# Altium footprint library 常用天线库.PcbLib: 31 footprints (part 1 of 2)
Each footprint in its own frame and in the unit in brackets; x right, y up, seen from the top. Pads: shape width x height; smd on the part's side, far side on the other; paste and mask are expansions set on the pad; w line width, h text height; cw(c..) or ccw(c..) is an arc to the next point about the centre after c.
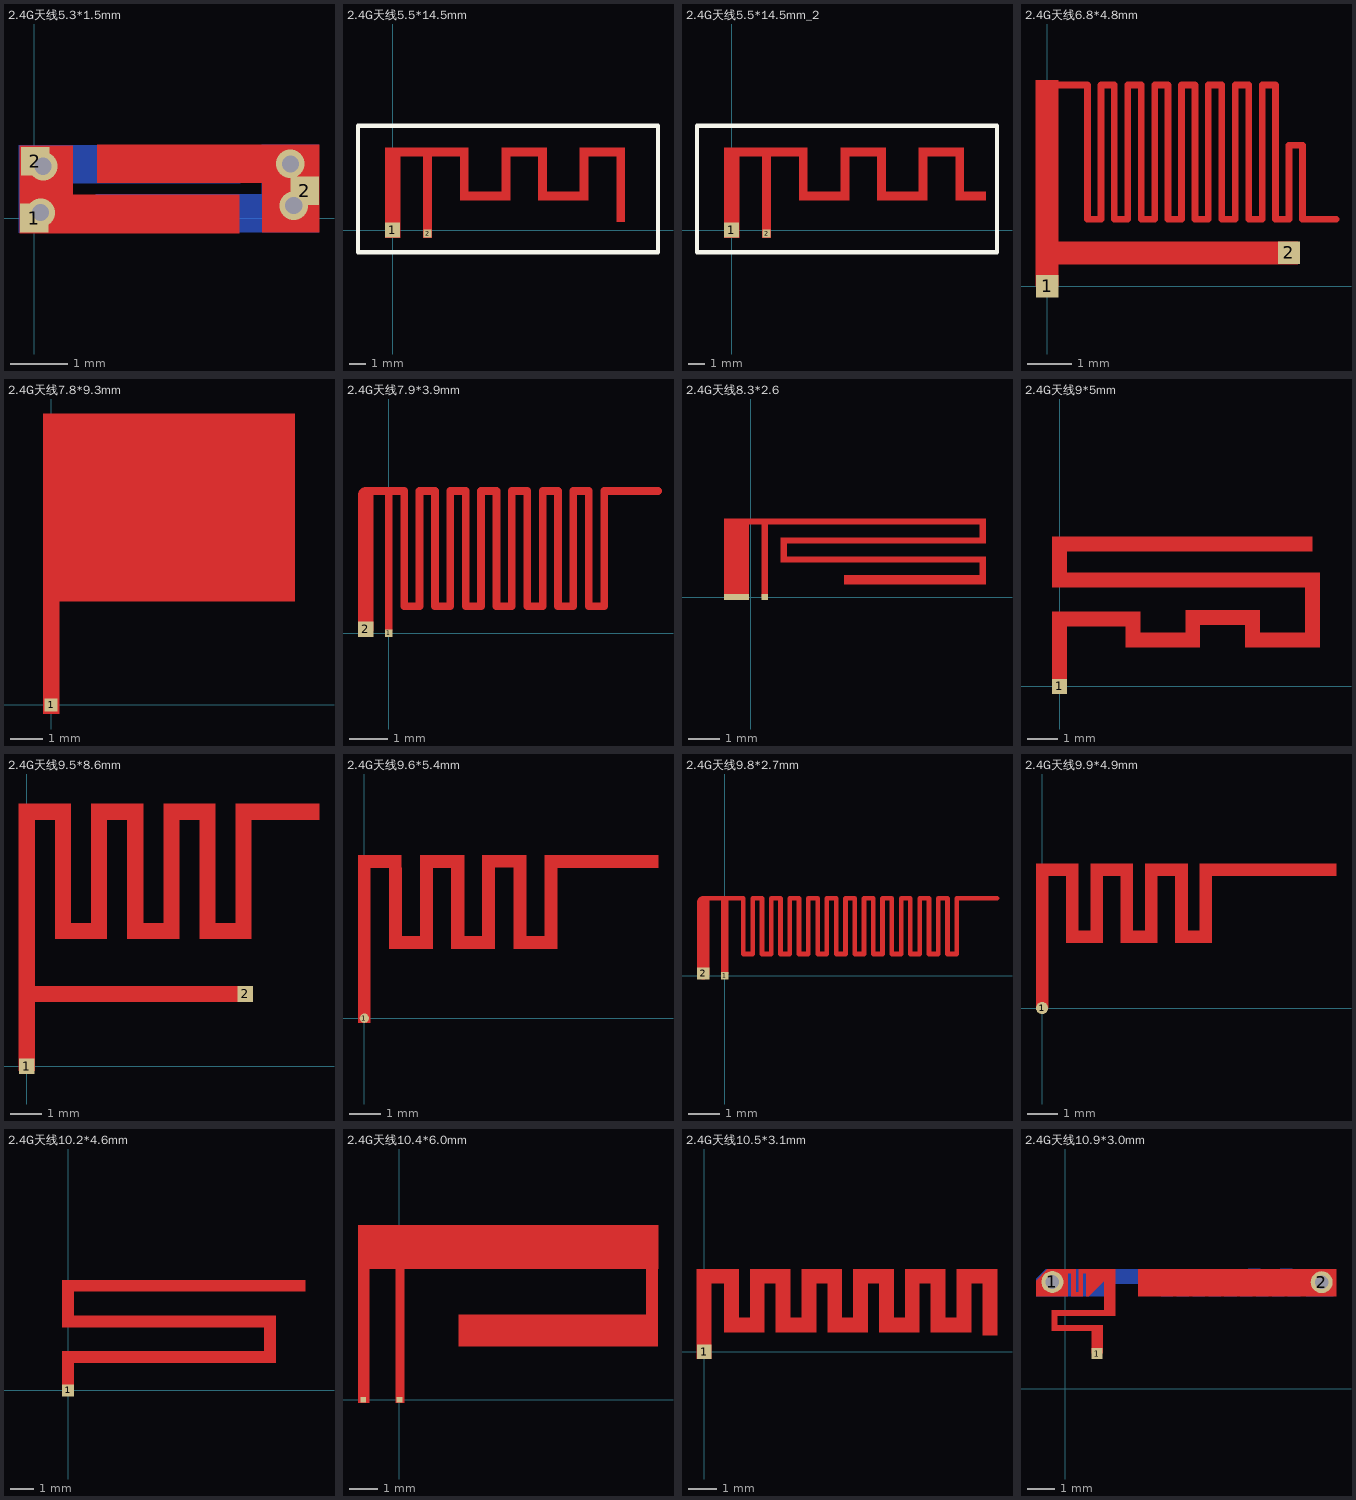
[diagram p0: the footprints below, top view; thin cyan lines are the x and y axes]

## 2.4G天线5.3*1.5mm [mm]
pads (3):
  rect 0.5x0.5 smd: 1(0,0) 2(0.02,0.99) 2(4.73,0.48)
via 0.111,0.095 diameter 0.5 hole 0.3
via 0.154,0.905 diameter 0.5 hole 0.3
via 4.481,0.946 diameter 0.5 hole 0.3
via 4.539,0.217 diameter 0.5 hole 0.3
Top Layer:
  region: -0.258,1.263 0.673,1.263 0.673,0.404 3.587,0.404 3.587,-0.268 -0.258,-0.268
  region: 1.1,1.281 1.1,0.619 3.986,0.619 3.986,-0.252 4.981,-0.252 4.981,1.281
  lines w0.5: 4.539,0.217 4.71,0.388
Bottom Layer:
  region: -0.267,1.275 -0.267,-0.258 0.67,-0.258 0.67,0.605 3.601,0.605 3.601,1.275
  region: 3.984,1.283 4.98,1.283 4.98,-0.25 1.074,-0.25 1.074,0.413 3.984,0.413

## 2.4G天线5.5*14.5mm [mm]
pads (2):
  rect 0.9x0.9 smd: 1(0,0)
  rect 0.5x0.5 smd: 2(2.1,-0.2)
Top Layer:
  region: 13.95,4.45 13.45,4.45 13.45,0.51 13.95,0.51
  region: 11.25,4.45 13.95,4.45 13.95,4.95 11.25,4.95
  region: 11.75,4.45 11.25,4.45 11.25,1.81 11.75,1.81
  region: 9.25,1.81 11.25,1.81 11.25,2.31 9.25,2.31
  region: 9.25,4.45 8.75,4.45 8.75,1.81 9.25,1.81
  region: 6.55,4.45 9.25,4.45 9.25,4.95 6.55,4.95
  region: 7.05,4.45 6.55,4.45 6.55,1.81 7.05,1.81
  region: 4.55,1.81 6.55,1.81 6.55,2.31 4.55,2.31
  region: 4.55,4.45 4.05,4.45 4.05,1.81 4.55,1.81
  region: -0.45,4.45 4.55,4.45 4.55,4.95 -0.45,4.95
  region: 1.85,4.45 2.35,4.45 2.35,-0.45 1.85,-0.45
  region: -0.45,-0.45 0.45,-0.45 0.45,4.45 -0.45,4.45
Top Overlay:
  lines w0.254: -2.07,-1.327 -2.07,6.273 15.93,6.273 15.93,-1.327 -2.07,-1.327

## 2.4G天线5.5*14.5mm_2 [mm]
pads (2):
  rect 0.9x0.9 smd: 1(0,0)
  rect 0.5x0.5 smd: 2(2.1,-0.2)
Top Layer:
  region: 13.72,1.81 15.25,1.81 15.25,2.31 13.72,2.31
  region: -0.45,-0.45 0.45,-0.45 0.45,4.45 -0.45,4.45
  region: 1.85,4.45 2.35,4.45 2.35,-0.45 1.85,-0.45
  region: -0.45,4.45 4.55,4.45 4.55,4.95 -0.45,4.95
  region: 4.55,4.45 4.05,4.45 4.05,1.81 4.55,1.81
  region: 4.55,1.81 6.55,1.81 6.55,2.31 4.55,2.31
  region: 7.05,4.45 6.55,4.45 6.55,1.81 7.05,1.81
  region: 6.55,4.45 9.25,4.45 9.25,4.95 6.55,4.95
  region: 9.25,4.45 8.75,4.45 8.75,1.81 9.25,1.81
  region: 9.25,1.81 11.25,1.81 11.25,2.31 9.25,2.31
  region: 11.75,4.45 11.25,4.45 11.25,1.81 11.75,1.81
  region: 11.25,4.45 13.95,4.45 13.95,4.95 11.25,4.95
  region: 13.95,4.45 13.45,4.45 13.45,1.81 13.95,1.81
Top Overlay:
  lines w0.254: -2.07,-1.327 15.93,-1.327 15.93,6.273 -2.07,6.273 -2.07,-1.327

## 2.4G天线6.8*4.8mm [mm]
pads (2):
  rect 0.5x0.5 smd: 1(0,0) 2(5.4,0.75)
Top Layer:
  region: 0,0.5 0,1 5.6,1 5.6,0.5
  region: -0.25,4.6 0.25,4.6 0.25,0 -0.25,0
  lines w0.15: 0.15,4.5 0.9,4.5 0.9,1.5 1.2,1.5 1.2,4.5 1.5,4.5 1.5,1.5 1.8,1.5 1.8,4.5 2.1,4.5 2.1,1.5 2.4,1.5 2.4,4.5 2.7,4.5 2.7,1.5 3,1.5 3,4.5 3.3,4.5 3.3,1.5 3.6,1.5 3.6,4.5 3.9,4.5 3.9,1.5 4.2,1.5 4.2,4.5 4.5,4.5 4.5,1.5 4.8,1.5 4.8,4.5 5.1,4.5 5.1,1.5 5.4,1.5 5.4,3.15 5.7,3.15 5.7,1.5 6.45,1.5

## 2.4G天线7.8*9.3mm [mm]
pads (1):
  rect 0.4x0.4 smd: 1(0,0)
Top Layer:
  region: -0.246,9.016 -0.246,-0.284 0.254,-0.284 0.254,9.016
  region: 7.554,9.016 7.554,3.216 -0.246,3.216 -0.246,9.016

## 2.4G天线7.9*3.9mm [mm]
pads (2):
  rrect0% 0.2x0.2 smd: 1(0,0)
  rect 0.4x0.4 smd: 2(-0.6,0.1)
Top Layer:
  lines w0.2: -0.6,3.7 0,3.7 ; 0,0.1 0,3.7 ; 7,3.696 5.6,3.696 5.6,0.7 5.2,0.7 5.2,3.7 4.8,3.7 4.8,0.7 4.4,0.7 4.4,3.7 4,3.7 4,0.7 3.6,0.7 3.6,3.7 3.2,3.7 3.2,0.7 2.8,0.7 2.8,3.7 2.4,3.7 2.4,0.7 2,0.7 2,3.7 1.6,3.7 1.6,0.7 1.2,0.7 1.2,3.7 0.8,3.7 0.8,0.7 0.4,0.7 0.4,3.7 0,3.7
  lines w0.4: -0.6,0.1 -0.6,3.6

## 2.4G天线8.3*2.6 [mm] "鼠标天线"
pads (2):
  rect 0.2x0.2 smd: 1(0.45,0)
  rect 0.8x0.2 smd: 2(-0.45,0)
Top Layer:
  rectangle: 2.95,0.39 7.45,0.69
  rectangle: 0.95,1.09 7.45,1.29
  rectangle: 0.95,1.69 7.45,1.89
  region: 7.45,0.39 7.45,1.29 7.25,1.29 7.25,0.39
  region: 7.45,1.69 7.45,2.49 7.25,2.49 7.25,1.69
  region: 1.15,1.09 1.15,1.89 0.95,1.89 0.95,1.09
  region: -0.05,-0.01 -0.05,2.49 -0.85,2.49 -0.85,-0.01
  rectangle: -0.85,2.29 7.45,2.49
  region: 0.55,-0.01 0.55,2.49 0.35,2.49 0.35,-0.01

## 2.4G天线9*5mm [mm] "2.4G"
pads (1):
  rect 0.5x0.5 smd: 1(0,0)
Top Layer:
  rectangle: -0.25,0 0.25,2.25
  region: 2.7,2 2.7,2.5 -0.25,2.5 -0.25,2
  region: 2.7,2.3 2.2,2.3 2.2,1.55 2.7,1.55
  region: 2.2,1.8 2.2,1.3 4.7,1.3 4.7,1.8
  region: 4.7,2.3 4.2,2.3 4.2,1.55 4.7,1.55
  region: 4.2,2.55 4.2,2.05 6.7,2.05 6.7,2.55
  region: 6.7,2.3 6.2,2.3 6.2,1.55 6.7,1.55
  region: 8.7,1.3 8.7,1.8 6.2,1.8 6.2,1.3
  region: 8.7,3.55 8.2,3.55 8.2,1.55 8.7,1.55
  region: -0.25,3.8 -0.25,3.3 8.7,3.3 8.7,3.8
  region: 0.25,4.75 -0.25,4.75 -0.25,3.5 0.25,3.5
  region: -0.25,5 -0.25,4.5 8.45,4.5 8.45,5

## 2.4G天线9.5*8.6mm [mm]
pads (2):
  rect 0.5x0.5 smd: 1(0,0) 2(6.95,2.3)
Top Layer:
  region: 6.65,8.35 9.3,8.35 9.3,7.85 6.65,7.85
  region: 6.65,8.15 7.15,8.15 7.15,4.25 6.65,4.25
  region: 5.5,4.55 7.15,4.55 7.15,4.05 5.5,4.05
  region: 5.5,8.35 6,8.35 6,4.05 5.5,4.05
  region: 4.55,8.35 6,8.35 6,7.85 4.55,7.85
  region: 4.35,8.35 4.85,8.35 4.85,4.3 4.35,4.3
  region: 3.2,4.55 4.85,4.55 4.85,4.05 3.2,4.05
  region: 3.2,8.25 3.7,8.25 3.7,4.4 3.2,4.4
  region: 2.05,8.35 2.55,8.35 2.55,4.35 2.05,4.35
  region: 2.3,8.35 3.7,8.35 3.7,7.85 2.3,7.85
  region: 0.9,7.95 1.4,7.95 1.4,4.35 0.9,4.35
  region: 0.9,4.55 2.55,4.55 2.55,4.05 0.9,4.05
  region: -0.25,8.35 1.4,8.35 1.4,7.85 -0.25,7.85
  region: -0.25,8.1 0.25,8.1 0.25,-0.15 -0.25,-0.15
  region: 0.05,2.55 7.185,2.55 7.185,2.05 0.05,2.05

## 2.4G天线9.6*5.4mm [mm]
pads (1):
  round 0.3 smd: 1(0,0)
Top Layer:
  region: -0.204,5.236 0.194,5.236 0.194,-0.15 -0.204,-0.15
  region: 0.193,5.236 1.193,5.236 1.193,4.837 0.193,4.837
  region: 0.793,4.836 1.193,4.836 1.193,2.237 0.793,2.237
  region: 1.183,2.637 1.792,2.637 1.792,2.237 1.183,2.237
  region: 1.792,5.237 2.192,5.237 2.192,2.237 1.792,2.237
  region: 2.192,5.236 3.214,5.236 3.214,4.836 2.192,4.836
  region: 2.793,4.837 3.215,4.837 3.215,2.237 2.793,2.237
  region: 3.793,5.239 4.193,5.239 4.193,2.237 3.793,2.237
  region: 3.215,2.639 3.81,2.639 3.81,2.239 3.215,2.239
  region: 4.795,4.842 5.195,4.842 5.195,2.235 4.795,2.235
  region: 4.193,5.238 5.193,5.238 5.193,4.841 4.193,4.841
  region: 5.195,2.635 5.812,2.635 5.812,2.235 5.195,2.235
  region: 5.793,5.236 6.193,5.236 6.193,2.236 5.793,2.236
  region: 6.178,5.235 9.43,5.235 9.43,4.834 6.178,4.834

## 2.4G天线9.8*2.7mm [mm]
pads (2):
  rrect0% 0.25x0.25 smd: 1(0,0)
  rect 0.4x0.4 smd: 2(-0.7,0.07)
Top Layer:
  lines w0.15: -0.7,2.5 0,2.5 ; 0,0.1 0,2.5 ; 8.8,2.5 7.8,2.5 7.5,2.5 7.5,0.7 7.2,0.7 7.2,2.5 6.9,2.5 6.9,0.7 6.6,0.7 6.6,2.5 6.3,2.5 6.3,0.7 6,0.7 6,2.5 5.7,2.5 5.7,0.7 5.4,0.7 5.4,2.5 5.1,2.5 5.1,0.7 4.8,0.7 4.8,2.5 4.5,2.5 4.5,0.7 4.2,0.7 4.2,2.5 3.9,2.5 3.9,0.7 3.6,0.7 3.6,2.5 3.3,2.5 3.3,0.7 3,0.7 3,2.5 2.7,2.5 2.7,0.7 2.4,0.7 2.4,2.5 2.1,2.5 2.1,0.7 1.8,0.7 1.8,2.5 1.5,2.5 1.5,0.7 1.2,0.7 1.2,2.5 0.9,2.5 0.9,0.7 0.6,0.7 0.6,2.5 0,2.5
  lines w0.25: 0,0.1 0,2.4
  lines w0.4: -0.7,0.07 -0.7,2.37

## 2.4G天线9.9*4.9mm [mm]
pads (1):
  round 0.4 smd: 1(0,0)
Top Layer:
  region: 3.4,4.76 3.8,4.76 3.8,2.16 3.4,2.16
  region: 2.6,2.56 3.8,2.56 3.8,2.16 2.6,2.16
  region: 5.2,4.76 9.7,4.76 9.7,4.36 5.2,4.36
  region: 5.2,2.16 5.2,4.76 5.6,4.76 5.6,2.16
  region: 4.4,2.56 5.6,2.56 5.6,2.16 4.4,2.16
  region: 4.4,4.76 4.4,2.16 4.8,2.16 4.8,4.76
  region: 3.4,4.76 4.8,4.76 4.8,4.36 3.4,4.36
  region: 2.6,4.76 2.6,2.16 3,2.16 3,4.76
  region: 1.6,4.76 3,4.76 3,4.36 1.6,4.36
  region: 1.6,4.76 1.6,2.16 2,2.16 2,4.76
  region: 0.8,2.56 2,2.56 2,2.16 0.8,2.16
  region: 0.8,4.76 0.8,2.16 1.2,2.16 1.2,4.76
  region: -0.2,4.76 1.2,4.76 1.2,4.36 -0.2,4.36
  region: -0.2,0 -0.2,4.76 0.2,4.76 0.2,0

## 2.4G天线10.2*4.6mm [mm] "2.4G"
pads (1):
  rect 0.5x0.5 smd: 1(0,0)
Top Layer:
  region: -0.25,3.15 -0.25,2.65 8.75,2.65 8.75,3.15
  region: 8.75,2.9 8.25,2.9 8.25,1.4 8.75,1.4
  region: 8.75,1.15 8.75,1.65 -0.25,1.65 -0.25,1.15
  rectangle: -0.25,0 0.25,1.4
  rectangle: -0.25,2.9 0.25,4.4
  region: 10,4.15 10,4.65 -0.25,4.65 -0.25,4.15

## 2.4G天线10.4*6.0mm [mm]
pads (2):
  rect 0.2x0.2 smd: 1(0,0) 2(-1.253,0)
Top Layer:
  region: -0.138,-0.101 -0.138,4.876 0.159,4.876 0.159,-0.101
  region: -1.439,4.551 -1.439,6.047 8.963,6.047 8.963,4.551
  region: 2.059,1.849 2.059,2.946 8.559,2.946 8.559,4.551 8.963,4.551 8.963,1.849 8.559,1.849
  region: -1.439,-0.1 -1.439,6.05 -1.044,6.05 -1.044,-0.1

## 2.4G天线10.5*3.1mm [mm]
pads (1):
  rect 0.5x0.5 smd: 1(0,0)
Top Layer:
  region: 3,2.382 3,2.882 1.6,2.882 1.6,2.382
  region: 3.9,0.682 3.9,1.182 2.5,1.182 2.5,0.682
  region: 4.8,2.382 4.8,2.882 3.4,2.882 3.4,2.382
  region: 5.7,0.682 5.7,1.182 4.3,1.182 4.3,0.682
  region: 6.6,2.382 6.6,2.882 5.2,2.882 5.2,2.382
  region: 7.5,0.682 7.5,1.182 6.1,1.182 6.1,0.682
  region: 8.4,2.382 8.4,2.882 7,2.882 7,2.382
  region: 9.3,0.682 9.3,1.182 7.9,1.182 7.9,0.682
  region: 10.2,2.382 10.2,2.882 8.8,2.882 8.8,2.382
  region: 9.7,0.582 10.2,0.582 10.2,2.882 9.7,2.882
  region: 8.8,0.682 9.3,0.682 9.3,2.882 8.8,2.882
  region: 7.9,0.682 8.4,0.682 8.4,2.882 7.9,2.882
  region: 7,0.682 7.5,0.682 7.5,2.882 7,2.882
  region: 6.1,0.682 6.6,0.682 6.6,2.882 6.1,2.882
  region: 5.2,0.682 5.7,0.682 5.7,2.882 5.2,2.882
  region: 4.3,0.682 4.8,0.682 4.8,2.882 4.3,2.882
  region: 3.4,0.682 3.9,0.682 3.9,2.882 3.4,2.882
  region: 2.5,0.682 3,0.682 3,2.882 2.5,2.882
  region: 1.6,0.682 2.1,0.682 2.1,2.882 1.6,2.882
  region: 2.1,0.682 2.1,1.182 0.7,1.182 0.7,0.682
  region: 1.2,2.382 1.2,2.882 -0.25,2.882 -0.25,2.382
  region: 0.7,0.682 1.2,0.682 1.2,2.882 0.7,2.882
  region: -0.25,-0.25 0.25,-0.25 0.25,2.882 -0.25,2.882

## 2.4G天线10.9*3.0mm [mm]
pads (3):
  round 0.8 hole 0.5: 1(-0.47,3.89) 2(9.348,3.883)
  rect 0.4x0.4 smd: 1(1.165,1.28)
Top Layer:
  region: 1.426,2.664 1.826,2.664 1.826,4.355 1.426,4.355
  region: 1.707,2.868 -0.319,2.868 -0.319,2.663 1.707,2.663
  region: -0.493,2.868 -0.493,2.113 -0.288,2.113 -0.288,2.868
  region: 0.969,2.318 -0.493,2.318 -0.493,2.113 0.969,2.113
  region: 0.966,1.283 1.365,1.283 1.365,2.318 0.966,2.318
  region: 1.656,4.354 0.762,4.354 0.762,3.371 0.855,3.371 1.656,4.171
  region: 0.492,4.354 0.492,3.37 0.642,3.37 0.642,4.354
  region: 0.797,4.354 0.525,4.354 0.525,4.204 0.797,4.204
  region: 0.572,3.52 0.3,3.52 0.3,3.37 0.572,3.37
  region: 0.225,4.354 0.225,3.37 0.375,3.37 0.375,4.354
  region: 0.257,4.355 -0.015,4.355 -0.015,4.205 0.257,4.205
  region: 0.082,4.354 0.082,3.371 -1.066,3.371 -1.066,3.939 -0.652,4.354
  region: 2.659,4.353 9.871,4.353 9.871,3.374 2.659,3.374
Bottom Layer:
  region: -1.067,3.375 1.655,3.375 1.655,3.824 3.036,3.824 3.493,3.367 3.922,3.367 3.922,4.362 -0.718,4.362 -1.067,4.012
  region: 8.418,4.363 8.418,3.366 8.568,3.366 8.568,4.363
  region: 8.943,4.363 8.503,4.363 8.503,4.213 8.943,4.213
  region: 8.121,4.365 8.121,3.366 8.27,3.366 8.27,4.365
  region: 8.498,3.516 8.227,3.516 8.227,3.366 8.498,3.366
  region: 7.835,4.365 7.835,3.368 7.985,3.368 7.985,4.365
  region: 8.191,4.365 7.92,4.365 7.92,4.216 8.191,4.216
  region: 7.916,3.518 7.644,3.518 7.644,3.368 7.916,3.368
  region: 7.541,4.363 7.541,3.368 7.69,3.368 7.69,4.363
  region: 7.612,4.363 7.34,4.363 7.34,4.214 7.612,4.214
  region: 7.256,4.363 7.256,3.366 7.405,3.366 7.405,4.363
  region: 7.335,3.516 7.064,3.516 7.064,3.366 7.335,3.366
  region: 6.962,4.365 6.962,3.366 7.111,3.366 7.111,4.365
  region: 7.032,4.365 6.761,4.365 6.761,4.216 7.032,4.216
  region: 6.676,4.365 6.676,3.368 6.826,3.368 6.826,4.365
  region: 6.757,3.518 6.485,3.518 6.485,3.368 6.757,3.368
  region: 6.382,4.363 6.382,3.368 6.532,3.368 6.532,4.363
  region: 6.453,4.363 6.181,4.363 6.181,4.214 6.453,4.214
  region: 6.097,4.363 6.097,3.366 6.246,3.366 6.246,4.363
  region: 6.176,3.516 5.905,3.516 5.905,3.366 6.176,3.366
  region: 5.801,4.363 5.801,3.366 5.951,3.366 5.951,4.363
  region: 5.874,4.363 5.602,4.363 5.602,4.213 5.874,4.213
  region: 5.518,4.363 5.518,3.369 5.667,3.369 5.667,4.363
  region: 5.597,3.515 5.325,3.515 5.325,3.369 5.597,3.369
  region: 5.224,4.361 5.224,3.369 5.374,3.369 5.374,4.361
  region: 5.309,4.363 5.038,4.363 5.038,4.213 5.309,4.213
  region: 4.941,4.361 4.941,3.367 5.09,3.367 5.09,4.361
  region: 4.646,4.361 4.646,3.367 4.796,3.367 4.796,4.361
  region: 5.037,3.517 4.765,3.517 4.765,3.367 5.037,3.367
  region: 4.694,4.362 4.423,4.362 4.423,4.212 4.694,4.212
  region: 4.36,4.362 4.36,3.368 4.51,3.368 4.51,4.362
  region: 4.184,3.368 4.455,3.368 4.455,3.517 4.184,3.517
  region: 4.065,4.362 4.065,3.368 4.215,3.368 4.215,4.362
  region: 4.155,4.362 3.884,4.362 3.884,4.212 4.155,4.212
  region: 8.795,4.239 8.795,3.368 9.776,3.368 9.843,3.435 9.843,4.12 9.388,4.363 8.794,4.363 8.794,4.239